# Altium schematic symbol library jlcpcb_2025_04_inductors_extended_1812.schlib: 80 symbols (part 1 of 2)
Pins are listed as number, name and electrical type; pins without a type are passive.

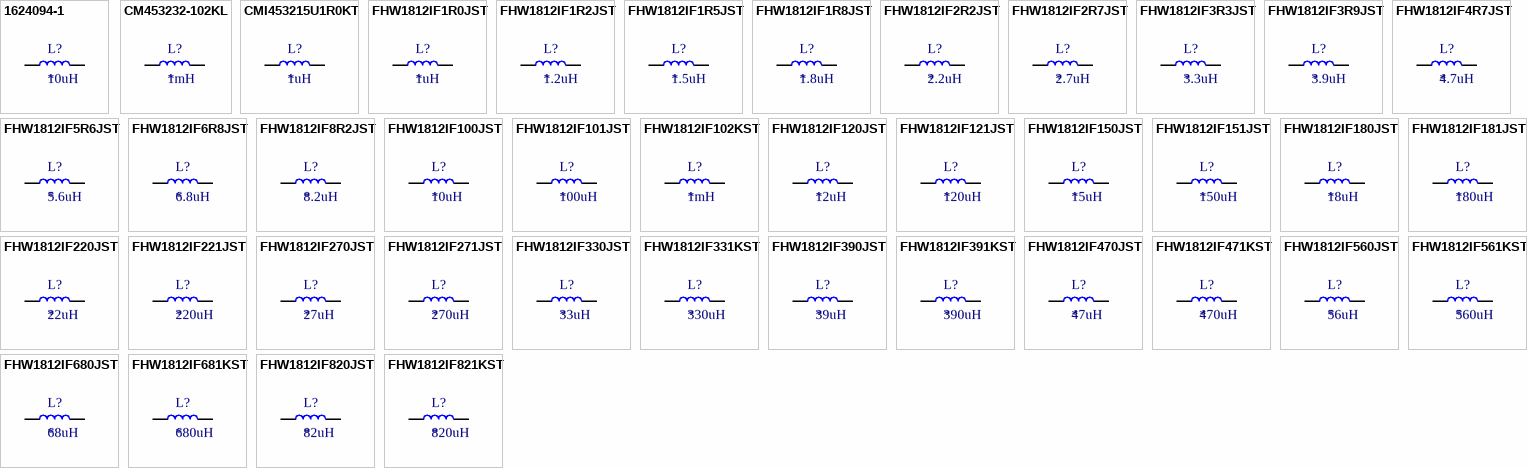
[diagram p0: symbols 1624094-1 to FHW1812IF821KST]

## 1624094-1
designator L?  Inductance: 10uH
Inductor, 10uH, ±10%, 1.6Ω, 250mA, SMD 1812; Manufacturer: TE Connectivity; Manufacturer Part Number: 1624094-1; Package Size: 1812; JLCPCB Basic Part: No; JLCPCB Part Number: C306170; Supplier 1: LCSC; Category: Inductors; Supplier Part Number 1: C306170; Tolerance: ±10%; Rated Current: 250mA; DC Resistance: 1.6Ω; RoHS: Yes; ComponentLink1Description: Datasheet; ComponentLink1URL: https://wmsc.lcsc.com/wmsc/upload/file/pdf/v2/lcsc/1811071522_TE-Connectivity-1624094-1_C306170.pdf; ComponentLink2Description: JLCPCB Part URL; ComponentLink2URL: https://jlcpcb.com/partdetail/C306170; ComponentLink3Description: LCSC Part URL; ComponentLink3URL: https://lcsc.com/product-detail/Inductors-SMD_TE-Connectivity-TE-Connectivity-1624094-1_C306170.html
footprint IND-1812 (1812 (4532M) Inductor)
pins: 1, 2

## CM453232-102KL
designator L?  Inductance: 1mH
Inductor, 1mH, ±10%, 40Ω, 30mA, SMD 1812; Manufacturer: BOURNS; Manufacturer Part Number: CM453232-102KL; Package Size: 1812; JLCPCB Basic Part: No; JLCPCB Part Number: C2042258; Supplier 1: LCSC; Category: Inductors; Supplier Part Number 1: C2042258; Tolerance: ±10%; Rated Current: 30mA; DC Resistance: 40Ω; RoHS: Yes; ComponentLink1Description: Datasheet; ComponentLink1URL: https://wmsc.lcsc.com/wmsc/upload/file/pdf/v2/lcsc/2304140030_BOURNS-CM453232-102KL_C2042258.pdf; ComponentLink2Description: JLCPCB Part URL; ComponentLink2URL: https://jlcpcb.com/partdetail/C2042258; ComponentLink3Description: LCSC Part URL; ComponentLink3URL: https://lcsc.com/product-detail/Power-Inductors_BOURNS-BOURNS-CM453232-102KL_C2042258.html
footprint IND-1812 (1812 (4532M) Inductor)
pins: 1, 2

## CMI453215U1R0KT
designator L?  Inductance: 1uH
Inductor, 1uH, ±10%, 550mΩ, 650mA, SMD 1812; Manufacturer: FH(Guangdong Fenghua Advanced Tech); Manufacturer Part Number: CMI453215U1R0KT; Self-Resonant Frequency: 50MHz; Q Factor: 35@10MHz; Package Size: 1812; JLCPCB Basic Part: No; JLCPCB Part Number: C75658; Supplier 1: LCSC; Category: Inductors; Supplier Part Number 1: C75658; Tolerance: ±10%; Rated Current: 650mA; DC Resistance: 550mΩ; RoHS: Yes; ComponentLink1Description: Datasheet; ComponentLink1URL: https://wmsc.lcsc.com/wmsc/upload/file/pdf/v2/lcsc/2302231101_FH--Guangdong-Fenghua-Advanced-Tech-CMI453215U1R0KT_C75658.pdf; ComponentLink2Description: JLCPCB Part URL; ComponentLink2URL: https://jlcpcb.com/partdetail/C75658; ComponentLink3Description: LCSC Part URL; ComponentLink3URL: https://lcsc.com/product-detail/Inductors-SMD_FH-Guangdong-Fenghua-Advanced-Tech-FH-Guangdong-Fenghua-Advanced-Tech-CMI453215U1R0KT_C75658.html
footprint IND-1812 (1812 (4532M) Inductor)
pins: 1, 2

## FHW1812IF1R0JST
designator L?  Inductance: 1uH
Inductor, 1uH, ±5%, 220mΩ, 1A, SMD 1812; Manufacturer: FH(Guangdong Fenghua Advanced Tech); Manufacturer Part Number: FHW1812IF1R0JST; Self-Resonant Frequency: 200MHz; Q Factor: 15@7.96MHz; Package Size: 1812; JLCPCB Basic Part: No; JLCPCB Part Number: C394110; Supplier 1: LCSC; Category: Inductors; Supplier Part Number 1: C394110; Tolerance: ±5%; Rated Current: 1A; DC Resistance: 220mΩ; RoHS: Yes; ComponentLink1Description: Datasheet; ComponentLink1URL: https://wmsc.lcsc.com/wmsc/upload/file/pdf/v2/lcsc/2303141830_FH--Guangdong-Fenghua-Advanced-Tech-FHW1812IF1R0JST_C394110.pdf; ComponentLink2Description: JLCPCB Part URL; ComponentLink2URL: https://jlcpcb.com/partdetail/C394110; ComponentLink3Description: LCSC Part URL; ComponentLink3URL: https://lcsc.com/product-detail/Inductors-SMD_FH-Guangdong-Fenghua-Advanced-Tech-FH-Guangdong-Fenghua-Advanced-Tech-FHW1812IF1R0JST_C394110.html
footprint IND-1812 (1812 (4532M) Inductor)
pins: 1, 2

## FHW1812IF1R2JST
designator L?  Inductance: 1.2uH
Inductor, 1.2uH, ±5%, 350mΩ, 1A, SMD 1812; Manufacturer: FH(Guangdong Fenghua Advanced Tech); Manufacturer Part Number: FHW1812IF1R2JST; Self-Resonant Frequency: 200MHz; Q Factor: 15@7.96MHz; Package Size: 1812; JLCPCB Basic Part: No; JLCPCB Part Number: C394111; Supplier 1: LCSC; Category: Inductors; Supplier Part Number 1: C394111; Tolerance: ±5%; Rated Current: 1A; DC Resistance: 350mΩ; RoHS: Yes; ComponentLink1Description: Datasheet; ComponentLink1URL: https://wmsc.lcsc.com/wmsc/upload/file/pdf/v2/lcsc/2303141830_FH--Guangdong-Fenghua-Advanced-Tech-FHW1812IF1R2JST_C394111.pdf; ComponentLink2Description: JLCPCB Part URL; ComponentLink2URL: https://jlcpcb.com/partdetail/C394111; ComponentLink3Description: LCSC Part URL; ComponentLink3URL: https://lcsc.com/product-detail/Inductors-SMD_FH-Guangdong-Fenghua-Advanced-Tech-FH-Guangdong-Fenghua-Advanced-Tech-FHW1812IF1R2JST_C394111.html
footprint IND-1812 (1812 (4532M) Inductor)
pins: 1, 2

## FHW1812IF1R5JST
designator L?  Inductance: 1.5uH
Inductor, 1.5uH, ±5%, 320mΩ, 1A, SMD 1812; Manufacturer: FH(Guangdong Fenghua Advanced Tech); Manufacturer Part Number: FHW1812IF1R5JST; Self-Resonant Frequency: 180MHz; Q Factor: 15@7.96MHz; Package Size: 1812; JLCPCB Basic Part: No; JLCPCB Part Number: C394112; Supplier 1: LCSC; Category: Inductors; Supplier Part Number 1: C394112; Tolerance: ±5%; Rated Current: 1A; DC Resistance: 320mΩ; RoHS: Yes; ComponentLink1Description: Datasheet; ComponentLink1URL: https://wmsc.lcsc.com/wmsc/upload/file/pdf/v2/lcsc/2303141830_FH--Guangdong-Fenghua-Advanced-Tech-FHW1812IF1R5JST_C394112.pdf; ComponentLink2Description: JLCPCB Part URL; ComponentLink2URL: https://jlcpcb.com/partdetail/C394112; ComponentLink3Description: LCSC Part URL; ComponentLink3URL: https://lcsc.com/product-detail/Inductors-SMD_FH-Guangdong-Fenghua-Advanced-Tech-FH-Guangdong-Fenghua-Advanced-Tech-FHW1812IF1R5JST_C394112.html
footprint IND-1812 (1812 (4532M) Inductor)
pins: 1, 2

## FHW1812IF1R8JST
designator L?  Inductance: 1.8uH
Inductor, 1.8uH, ±5%, 350mΩ, 950mA, SMD 1812; Manufacturer: FH(Guangdong Fenghua Advanced Tech); Manufacturer Part Number: FHW1812IF1R8JST; Self-Resonant Frequency: 160MHz; Q Factor: 15@7.96MHz; Package Size: 1812; JLCPCB Basic Part: No; JLCPCB Part Number: C394113; Supplier 1: LCSC; Category: Inductors; Supplier Part Number 1: C394113; Tolerance: ±5%; Rated Current: 950mA; DC Resistance: 350mΩ; RoHS: Yes; ComponentLink1Description: Datasheet; ComponentLink1URL: https://wmsc.lcsc.com/wmsc/upload/file/pdf/v2/lcsc/2303141830_FH--Guangdong-Fenghua-Advanced-Tech-FHW1812IF1R8JST_C394113.pdf; ComponentLink2Description: JLCPCB Part URL; ComponentLink2URL: https://jlcpcb.com/partdetail/C394113; ComponentLink3Description: LCSC Part URL; ComponentLink3URL: https://lcsc.com/product-detail/Inductors-SMD_FH-Guangdong-Fenghua-Advanced-Tech-FH-Guangdong-Fenghua-Advanced-Tech-FHW1812IF1R8JST_C394113.html
footprint IND-1812 (1812 (4532M) Inductor)
pins: 1, 2

## FHW1812IF2R2JST
designator L?  Inductance: 2.2uH
Inductor, 2.2uH, ±5%, 370mΩ, 900mA, SMD 1812; Manufacturer: FH(Guangdong Fenghua Advanced Tech); Manufacturer Part Number: FHW1812IF2R2JST; Self-Resonant Frequency: 150MHz; Q Factor: 15@7.96MHz; Package Size: 1812; JLCPCB Basic Part: No; JLCPCB Part Number: C394114; Supplier 1: LCSC; Category: Inductors; Supplier Part Number 1: C394114; Tolerance: ±5%; Rated Current: 900mA; DC Resistance: 370mΩ; RoHS: Yes; ComponentLink1Description: Datasheet; ComponentLink1URL: https://wmsc.lcsc.com/wmsc/upload/file/pdf/v2/lcsc/2303141830_FH--Guangdong-Fenghua-Advanced-Tech-FHW1812IF2R2JST_C394114.pdf; ComponentLink2Description: JLCPCB Part URL; ComponentLink2URL: https://jlcpcb.com/partdetail/C394114; ComponentLink3Description: LCSC Part URL; ComponentLink3URL: https://lcsc.com/product-detail/Inductors-SMD_FH-Guangdong-Fenghua-Advanced-Tech-FH-Guangdong-Fenghua-Advanced-Tech-FHW1812IF2R2JST_C394114.html
footprint IND-1812 (1812 (4532M) Inductor)
pins: 1, 2

## FHW1812IF2R7JST
designator L?  Inductance: 2.7uH
Inductor, 2.7uH, ±5%, 370mΩ, 850mA, SMD 1812; Manufacturer: FH(Guangdong Fenghua Advanced Tech); Manufacturer Part Number: FHW1812IF2R7JST; Self-Resonant Frequency: 145MHz; Q Factor: 15@7.96MHz; Package Size: 1812; JLCPCB Basic Part: No; JLCPCB Part Number: C394115; Supplier 1: LCSC; Category: Inductors; Supplier Part Number 1: C394115; Tolerance: ±5%; Rated Current: 850mA; DC Resistance: 370mΩ; RoHS: Yes; ComponentLink1Description: Datasheet; ComponentLink1URL: https://wmsc.lcsc.com/wmsc/upload/file/pdf/v2/lcsc/2303141830_FH--Guangdong-Fenghua-Advanced-Tech-FHW1812IF2R7JST_C394115.pdf; ComponentLink2Description: JLCPCB Part URL; ComponentLink2URL: https://jlcpcb.com/partdetail/C394115; ComponentLink3Description: LCSC Part URL; ComponentLink3URL: https://lcsc.com/product-detail/Inductors-SMD_FH-Guangdong-Fenghua-Advanced-Tech-FH-Guangdong-Fenghua-Advanced-Tech-FHW1812IF2R7JST_C394115.html
footprint IND-1812 (1812 (4532M) Inductor)
pins: 1, 2

## FHW1812IF3R3JST
designator L?  Inductance: 3.3uH
Inductor, 3.3uH, ±5%, 480mΩ, 800mA, SMD 1812; Manufacturer: FH(Guangdong Fenghua Advanced Tech); Manufacturer Part Number: FHW1812IF3R3JST; Self-Resonant Frequency: 140MHz; Q Factor: 15@7.96MHz; Package Size: 1812; JLCPCB Basic Part: No; JLCPCB Part Number: C394116; Supplier 1: LCSC; Category: Inductors; Supplier Part Number 1: C394116; Tolerance: ±5%; Rated Current: 800mA; DC Resistance: 480mΩ; RoHS: Yes; ComponentLink1Description: Datasheet; ComponentLink1URL: https://wmsc.lcsc.com/wmsc/upload/file/pdf/v2/lcsc/2303141830_FH--Guangdong-Fenghua-Advanced-Tech-FHW1812IF3R3JST_C394116.pdf; ComponentLink2Description: JLCPCB Part URL; ComponentLink2URL: https://jlcpcb.com/partdetail/C394116; ComponentLink3Description: LCSC Part URL; ComponentLink3URL: https://lcsc.com/product-detail/Inductors-SMD_FH-Guangdong-Fenghua-Advanced-Tech-FH-Guangdong-Fenghua-Advanced-Tech-FHW1812IF3R3JST_C394116.html
footprint IND-1812 (1812 (4532M) Inductor)
pins: 1, 2

## FHW1812IF3R9JST
designator L?  Inductance: 3.9uH
Inductor, 3.9uH, ±5%, 600mΩ, 750mA, SMD 1812; Manufacturer: FH(Guangdong Fenghua Advanced Tech); Manufacturer Part Number: FHW1812IF3R9JST; Self-Resonant Frequency: 135MHz; Q Factor: 15@7.96MHz; Package Size: 1812; JLCPCB Basic Part: No; JLCPCB Part Number: C394117; Supplier 1: LCSC; Category: Inductors; Supplier Part Number 1: C394117; Tolerance: ±5%; Rated Current: 750mA; DC Resistance: 600mΩ; RoHS: Yes; ComponentLink1Description: Datasheet; ComponentLink1URL: https://wmsc.lcsc.com/wmsc/upload/file/pdf/v2/lcsc/2303141830_FH--Guangdong-Fenghua-Advanced-Tech-FHW1812IF3R9JST_C394117.pdf; ComponentLink2Description: JLCPCB Part URL; ComponentLink2URL: https://jlcpcb.com/partdetail/C394117; ComponentLink3Description: LCSC Part URL; ComponentLink3URL: https://lcsc.com/product-detail/Inductors-SMD_FH-Guangdong-Fenghua-Advanced-Tech-FH-Guangdong-Fenghua-Advanced-Tech-FHW1812IF3R9JST_C394117.html
footprint IND-1812 (1812 (4532M) Inductor)
pins: 1, 2

## FHW1812IF4R7JST
designator L?  Inductance: 4.7uH
Inductor, 4.7uH, ±5%, 1Ω, 700mA, SMD 1812; Manufacturer: FH(Guangdong Fenghua Advanced Tech); Manufacturer Part Number: FHW1812IF4R7JST; Self-Resonant Frequency: 120MHz; Q Factor: 15@7.96MHz; Package Size: 1812; JLCPCB Basic Part: No; JLCPCB Part Number: C394118; Supplier 1: LCSC; Category: Inductors; Supplier Part Number 1: C394118; Tolerance: ±5%; Rated Current: 700mA; DC Resistance: 1Ω; RoHS: Yes; ComponentLink1Description: Datasheet; ComponentLink1URL: https://wmsc.lcsc.com/wmsc/upload/file/pdf/v2/lcsc/2303141830_FH--Guangdong-Fenghua-Advanced-Tech-FHW1812IF4R7JST_C394118.pdf; ComponentLink2Description: JLCPCB Part URL; ComponentLink2URL: https://jlcpcb.com/partdetail/C394118; ComponentLink3Description: LCSC Part URL; ComponentLink3URL: https://lcsc.com/product-detail/Inductors-SMD_FH-Guangdong-Fenghua-Advanced-Tech-FH-Guangdong-Fenghua-Advanced-Tech-FHW1812IF4R7JST_C394118.html
footprint IND-1812 (1812 (4532M) Inductor)
pins: 1, 2

## FHW1812IF5R6JST
designator L?  Inductance: 5.6uH
Inductor, 5.6uH, ±5%, 550mΩ, 650mA, SMD 1812; Manufacturer: FH(Guangdong Fenghua Advanced Tech); Manufacturer Part Number: FHW1812IF5R6JST; Self-Resonant Frequency: 110MHz; Q Factor: 15@7.96MHz; Package Size: 1812; JLCPCB Basic Part: No; JLCPCB Part Number: C394119; Supplier 1: LCSC; Category: Inductors; Supplier Part Number 1: C394119; Tolerance: ±5%; Rated Current: 650mA; DC Resistance: 550mΩ; RoHS: Yes; ComponentLink1Description: Datasheet; ComponentLink1URL: https://wmsc.lcsc.com/wmsc/upload/file/pdf/v2/lcsc/2303141830_FH--Guangdong-Fenghua-Advanced-Tech-FHW1812IF5R6JST_C394119.pdf; ComponentLink2Description: JLCPCB Part URL; ComponentLink2URL: https://jlcpcb.com/partdetail/C394119; ComponentLink3Description: LCSC Part URL; ComponentLink3URL: https://lcsc.com/product-detail/Inductors-SMD_FH-Guangdong-Fenghua-Advanced-Tech-FH-Guangdong-Fenghua-Advanced-Tech-FHW1812IF5R6JST_C394119.html
footprint IND-1812 (1812 (4532M) Inductor)
pins: 1, 2

## FHW1812IF6R8JST
designator L?  Inductance: 6.8uH
Inductor, 6.8uH, ±5%, 800mΩ, 600mA, SMD 1812; Manufacturer: FH(Guangdong Fenghua Advanced Tech); Manufacturer Part Number: FHW1812IF6R8JST; Self-Resonant Frequency: 80MHz; Q Factor: 15@7.96MHz; Package Size: 1812; JLCPCB Basic Part: No; JLCPCB Part Number: C394120; Supplier 1: LCSC; Category: Inductors; Supplier Part Number 1: C394120; Tolerance: ±5%; Rated Current: 600mA; DC Resistance: 800mΩ; RoHS: Yes; ComponentLink1Description: Datasheet; ComponentLink1URL: https://wmsc.lcsc.com/wmsc/upload/file/pdf/v2/lcsc/2303141830_FH--Guangdong-Fenghua-Advanced-Tech-FHW1812IF6R8JST_C394120.pdf; ComponentLink2Description: JLCPCB Part URL; ComponentLink2URL: https://jlcpcb.com/partdetail/C394120; ComponentLink3Description: LCSC Part URL; ComponentLink3URL: https://lcsc.com/product-detail/Inductors-SMD_FH-Guangdong-Fenghua-Advanced-Tech-FH-Guangdong-Fenghua-Advanced-Tech-FHW1812IF6R8JST_C394120.html
footprint IND-1812 (1812 (4532M) Inductor)
pins: 1, 2

## FHW1812IF8R2JST
designator L?  Inductance: 8.2uH
Inductor, 8.2uH, ±5%, 850mΩ, 600mA, SMD 1812; Manufacturer: FH(Guangdong Fenghua Advanced Tech); Manufacturer Part Number: FHW1812IF8R2JST; Self-Resonant Frequency: 70MHz; Q Factor: 10@7.96MHz; Package Size: 1812; JLCPCB Basic Part: No; JLCPCB Part Number: C394121; Supplier 1: LCSC; Category: Inductors; Supplier Part Number 1: C394121; Tolerance: ±5%; Rated Current: 600mA; DC Resistance: 850mΩ; RoHS: Yes; ComponentLink1Description: Datasheet; ComponentLink1URL: https://wmsc.lcsc.com/wmsc/upload/file/pdf/v2/lcsc/2303141830_FH--Guangdong-Fenghua-Advanced-Tech-FHW1812IF8R2JST_C394121.pdf; ComponentLink2Description: JLCPCB Part URL; ComponentLink2URL: https://jlcpcb.com/partdetail/C394121; ComponentLink3Description: LCSC Part URL; ComponentLink3URL: https://lcsc.com/product-detail/Inductors-SMD_FH-Guangdong-Fenghua-Advanced-Tech-FH-Guangdong-Fenghua-Advanced-Tech-FHW1812IF8R2JST_C394121.html
footprint IND-1812 (1812 (4532M) Inductor)
pins: 1, 2

## FHW1812IF100JST
designator L?  Inductance: 10uH
Inductor, 10uH, ±5%, 1Ω, 550mA, SMD 1812; Manufacturer: FH(Guangdong Fenghua Advanced Tech); Manufacturer Part Number: FHW1812IF100JST; Self-Resonant Frequency: 65MHz; Q Factor: 10@2.52MHz; Package Size: 1812; JLCPCB Basic Part: No; JLCPCB Part Number: C295709; Supplier 1: LCSC; Category: Inductors; Supplier Part Number 1: C295709; Tolerance: ±5%; Rated Current: 550mA; DC Resistance: 1Ω; RoHS: Yes; ComponentLink1Description: Datasheet; ComponentLink1URL: https://wmsc.lcsc.com/wmsc/upload/file/pdf/v2/lcsc/2303141830_FH--Guangdong-Fenghua-Advanced-Tech-FHW1812IF100JST_C295709.pdf; ComponentLink2Description: JLCPCB Part URL; ComponentLink2URL: https://jlcpcb.com/partdetail/C295709; ComponentLink3Description: LCSC Part URL; ComponentLink3URL: https://lcsc.com/product-detail/Inductors-SMD_FH-Guangdong-Fenghua-Advanced-Tech-FH-Guangdong-Fenghua-Advanced-Tech-FHW1812IF100JST_C295709.html
footprint IND-1812 (1812 (4532M) Inductor)
pins: 1, 2

## FHW1812IF101JST
designator L?  Inductance: 100uH
Inductor, 100uH, ±5%, 3Ω, 220mA, SMD 1812; Manufacturer: FH(Guangdong Fenghua Advanced Tech); Manufacturer Part Number: FHW1812IF101JST; Self-Resonant Frequency: 4MHz; Q Factor: 10@796kHz; Package Size: 1812; JLCPCB Basic Part: No; JLCPCB Part Number: C394133; Supplier 1: LCSC; Category: Inductors; Supplier Part Number 1: C394133; Tolerance: ±5%; Rated Current: 220mA; DC Resistance: 3Ω; RoHS: Yes; ComponentLink1Description: Datasheet; ComponentLink1URL: https://wmsc.lcsc.com/wmsc/upload/file/pdf/v2/lcsc/2303141830_FH--Guangdong-Fenghua-Advanced-Tech-FHW1812IF101JST_C394133.pdf; ComponentLink2Description: JLCPCB Part URL; ComponentLink2URL: https://jlcpcb.com/partdetail/C394133; ComponentLink3Description: LCSC Part URL; ComponentLink3URL: https://lcsc.com/product-detail/Inductors-SMD_FH-Guangdong-Fenghua-Advanced-Tech-FH-Guangdong-Fenghua-Advanced-Tech-FHW1812IF101JST_C394133.html
footprint IND-1812 (1812 (4532M) Inductor)
pins: 1, 2

## FHW1812IF102KST
designator L?  Inductance: 1mH
Inductor, 1mH, ±10%, 16.5Ω, 90mA, SMD 1812; Manufacturer: FH(Guangdong Fenghua Advanced Tech); Manufacturer Part Number: FHW1812IF102KST; Self-Resonant Frequency: 1.4MHz; Q Factor: 6@252kHz; Package Size: 1812; JLCPCB Basic Part: No; JLCPCB Part Number: C394145; Supplier 1: LCSC; Category: Inductors; Supplier Part Number 1: C394145; Tolerance: ±10%; Rated Current: 90mA; DC Resistance: 16.5Ω; RoHS: Yes; ComponentLink1Description: Datasheet; ComponentLink1URL: https://wmsc.lcsc.com/wmsc/upload/file/pdf/v2/lcsc/2303141830_FH--Guangdong-Fenghua-Advanced-Tech-FHW1812IF102KST_C394145.pdf; ComponentLink2Description: JLCPCB Part URL; ComponentLink2URL: https://jlcpcb.com/partdetail/C394145; ComponentLink3Description: LCSC Part URL; ComponentLink3URL: https://lcsc.com/product-detail/Inductors-SMD_FH-Guangdong-Fenghua-Advanced-Tech-FH-Guangdong-Fenghua-Advanced-Tech-FHW1812IF102KST_C394145.html
footprint IND-1812 (1812 (4532M) Inductor)
pins: 1, 2

## FHW1812IF120JST
designator L?  Inductance: 12uH
Inductor, 12uH, ±5%, 1.1Ω, 550mA, SMD 1812; Manufacturer: FH(Guangdong Fenghua Advanced Tech); Manufacturer Part Number: FHW1812IF120JST; Self-Resonant Frequency: 55MHz; Q Factor: 10@2.52MHz; Package Size: 1812; JLCPCB Basic Part: No; JLCPCB Part Number: C394122; Supplier 1: LCSC; Category: Inductors; Supplier Part Number 1: C394122; Tolerance: ±5%; Rated Current: 550mA; DC Resistance: 1.1Ω; RoHS: Yes; ComponentLink1Description: Datasheet; ComponentLink1URL: https://wmsc.lcsc.com/wmsc/upload/file/pdf/v2/lcsc/2303141830_FH--Guangdong-Fenghua-Advanced-Tech-FHW1812IF120JST_C394122.pdf; ComponentLink2Description: JLCPCB Part URL; ComponentLink2URL: https://jlcpcb.com/partdetail/C394122; ComponentLink3Description: LCSC Part URL; ComponentLink3URL: https://lcsc.com/product-detail/Inductors-SMD_FH-Guangdong-Fenghua-Advanced-Tech-FH-Guangdong-Fenghua-Advanced-Tech-FHW1812IF120JST_C394122.html
footprint IND-1812 (1812 (4532M) Inductor)
pins: 1, 2

## FHW1812IF121JST
designator L?  Inductance: 120uH
Inductor, 120uH, ±5%, 3.3Ω, 220mA, SMD 1812; Manufacturer: FH(Guangdong Fenghua Advanced Tech); Manufacturer Part Number: FHW1812IF121JST; Self-Resonant Frequency: 3.3MHz; Q Factor: 10@796kHz; Package Size: 1812; JLCPCB Basic Part: No; JLCPCB Part Number: C394134; Supplier 1: LCSC; Category: Inductors; Supplier Part Number 1: C394134; Tolerance: ±5%; Rated Current: 220mA; DC Resistance: 3.3Ω; RoHS: Yes; ComponentLink1Description: Datasheet; ComponentLink1URL: https://wmsc.lcsc.com/wmsc/upload/file/pdf/v2/lcsc/2303141830_FH--Guangdong-Fenghua-Advanced-Tech-FHW1812IF121JST_C394134.pdf; ComponentLink2Description: JLCPCB Part URL; ComponentLink2URL: https://jlcpcb.com/partdetail/C394134; ComponentLink3Description: LCSC Part URL; ComponentLink3URL: https://lcsc.com/product-detail/Inductors-SMD_FH-Guangdong-Fenghua-Advanced-Tech-FH-Guangdong-Fenghua-Advanced-Tech-FHW1812IF121JST_C394134.html
footprint IND-1812 (1812 (4532M) Inductor)
pins: 1, 2

## FHW1812IF150JST
designator L?  Inductance: 15uH
Inductor, 15uH, ±5%, 1.2Ω, 500mA, SMD 1812; Manufacturer: FH(Guangdong Fenghua Advanced Tech); Manufacturer Part Number: FHW1812IF150JST; Self-Resonant Frequency: 35MHz; Q Factor: 10@2.52MHz; Package Size: 1812; JLCPCB Basic Part: No; JLCPCB Part Number: C394123; Supplier 1: LCSC; Category: Inductors; Supplier Part Number 1: C394123; Tolerance: ±5%; Rated Current: 500mA; DC Resistance: 1.2Ω; RoHS: Yes; ComponentLink1Description: Datasheet; ComponentLink1URL: https://wmsc.lcsc.com/wmsc/upload/file/pdf/v2/lcsc/2303141830_FH--Guangdong-Fenghua-Advanced-Tech-FHW1812IF150JST_C394123.pdf; ComponentLink2Description: JLCPCB Part URL; ComponentLink2URL: https://jlcpcb.com/partdetail/C394123; ComponentLink3Description: LCSC Part URL; ComponentLink3URL: https://lcsc.com/product-detail/Inductors-SMD_FH-Guangdong-Fenghua-Advanced-Tech-FH-Guangdong-Fenghua-Advanced-Tech-FHW1812IF150JST_C394123.html
footprint IND-1812 (1812 (4532M) Inductor)
pins: 1, 2

## FHW1812IF151JST
designator L?  Inductance: 150uH
Inductor, 150uH, ±5%, 3.7Ω, 200mA, SMD 1812; Manufacturer: FH(Guangdong Fenghua Advanced Tech); Manufacturer Part Number: FHW1812IF151JST; Self-Resonant Frequency: 3MHz; Q Factor: 10@796kHz; Package Size: 1812; JLCPCB Basic Part: No; JLCPCB Part Number: C394135; Supplier 1: LCSC; Category: Inductors; Supplier Part Number 1: C394135; Tolerance: ±5%; Rated Current: 200mA; DC Resistance: 3.7Ω; RoHS: Yes; ComponentLink1Description: Datasheet; ComponentLink1URL: https://wmsc.lcsc.com/wmsc/upload/file/pdf/v2/lcsc/2303141830_FH--Guangdong-Fenghua-Advanced-Tech-FHW1812IF151JST_C394135.pdf; ComponentLink2Description: JLCPCB Part URL; ComponentLink2URL: https://jlcpcb.com/partdetail/C394135; ComponentLink3Description: LCSC Part URL; ComponentLink3URL: https://lcsc.com/product-detail/Inductors-SMD_FH-Guangdong-Fenghua-Advanced-Tech-FH-Guangdong-Fenghua-Advanced-Tech-FHW1812IF151JST_C394135.html
footprint IND-1812 (1812 (4532M) Inductor)
pins: 1, 2

## FHW1812IF180JST
designator L?  Inductance: 18uH
Inductor, 18uH, ±5%, 1.2Ω, 500mA, SMD 1812; Manufacturer: FH(Guangdong Fenghua Advanced Tech); Manufacturer Part Number: FHW1812IF180JST; Self-Resonant Frequency: 29MHz; Q Factor: 10@2.52MHz; Package Size: 1812; JLCPCB Basic Part: No; JLCPCB Part Number: C394124; Supplier 1: LCSC; Category: Inductors; Supplier Part Number 1: C394124; Tolerance: ±5%; Rated Current: 500mA; DC Resistance: 1.2Ω; RoHS: Yes; ComponentLink1Description: Datasheet; ComponentLink1URL: https://wmsc.lcsc.com/wmsc/upload/file/pdf/v2/lcsc/2303141830_FH--Guangdong-Fenghua-Advanced-Tech-FHW1812IF180JST_C394124.pdf; ComponentLink2Description: JLCPCB Part URL; ComponentLink2URL: https://jlcpcb.com/partdetail/C394124; ComponentLink3Description: LCSC Part URL; ComponentLink3URL: https://lcsc.com/product-detail/Inductors-SMD_FH-Guangdong-Fenghua-Advanced-Tech-FH-Guangdong-Fenghua-Advanced-Tech-FHW1812IF180JST_C394124.html
footprint IND-1812 (1812 (4532M) Inductor)
pins: 1, 2

## FHW1812IF181JST
designator L?  Inductance: 180uH
Inductor, 180uH, ±5%, 4.5Ω, 200mA, SMD 1812; Manufacturer: FH(Guangdong Fenghua Advanced Tech); Manufacturer Part Number: FHW1812IF181JST; Self-Resonant Frequency: 3MHz; Q Factor: 10@796kHz; Package Size: 1812; JLCPCB Basic Part: No; JLCPCB Part Number: C394136; Supplier 1: LCSC; Category: Inductors; Supplier Part Number 1: C394136; Tolerance: ±5%; Rated Current: 200mA; DC Resistance: 4.5Ω; RoHS: Yes; ComponentLink1Description: Datasheet; ComponentLink1URL: https://wmsc.lcsc.com/wmsc/upload/file/pdf/v2/lcsc/2303141830_FH--Guangdong-Fenghua-Advanced-Tech-FHW1812IF181JST_C394136.pdf; ComponentLink2Description: JLCPCB Part URL; ComponentLink2URL: https://jlcpcb.com/partdetail/C394136; ComponentLink3Description: LCSC Part URL; ComponentLink3URL: https://lcsc.com/product-detail/Inductors-SMD_FH-Guangdong-Fenghua-Advanced-Tech-FH-Guangdong-Fenghua-Advanced-Tech-FHW1812IF181JST_C394136.html
footprint IND-1812 (1812 (4532M) Inductor)
pins: 1, 2

## FHW1812IF220JST
designator L?  Inductance: 22uH
Inductor, 22uH, ±5%, 1.3Ω, 450mA, SMD 1812; Manufacturer: FH(Guangdong Fenghua Advanced Tech); Manufacturer Part Number: FHW1812IF220JST; Self-Resonant Frequency: 20MHz; Q Factor: 10@2.52MHz; Package Size: 1812; JLCPCB Basic Part: No; JLCPCB Part Number: C394125; Supplier 1: LCSC; Category: Inductors; Supplier Part Number 1: C394125; Tolerance: ±5%; Rated Current: 450mA; DC Resistance: 1.3Ω; RoHS: Yes; ComponentLink1Description: Datasheet; ComponentLink1URL: https://wmsc.lcsc.com/wmsc/upload/file/pdf/v2/lcsc/2303141830_FH--Guangdong-Fenghua-Advanced-Tech-FHW1812IF220JST_C394125.pdf; ComponentLink2Description: JLCPCB Part URL; ComponentLink2URL: https://jlcpcb.com/partdetail/C394125; ComponentLink3Description: LCSC Part URL; ComponentLink3URL: https://lcsc.com/product-detail/Inductors-SMD_FH-Guangdong-Fenghua-Advanced-Tech-FH-Guangdong-Fenghua-Advanced-Tech-FHW1812IF220JST_C394125.html
footprint IND-1812 (1812 (4532M) Inductor)
pins: 1, 2

## FHW1812IF221JST
designator L?  Inductance: 220uH
Inductor, 220uH, ±5%, 8Ω, 170mA, SMD 1812; Manufacturer: FH(Guangdong Fenghua Advanced Tech); Manufacturer Part Number: FHW1812IF221JST; Self-Resonant Frequency: 2.5MHz; Q Factor: 10@796kHz; Package Size: 1812; JLCPCB Basic Part: No; JLCPCB Part Number: C394137; Supplier 1: LCSC; Category: Inductors; Supplier Part Number 1: C394137; Tolerance: ±5%; Rated Current: 170mA; DC Resistance: 8Ω; RoHS: Yes; ComponentLink1Description: Datasheet; ComponentLink1URL: https://wmsc.lcsc.com/wmsc/upload/file/pdf/v2/lcsc/2303141830_FH--Guangdong-Fenghua-Advanced-Tech-FHW1812IF221JST_C394137.pdf; ComponentLink2Description: JLCPCB Part URL; ComponentLink2URL: https://jlcpcb.com/partdetail/C394137; ComponentLink3Description: LCSC Part URL; ComponentLink3URL: https://lcsc.com/product-detail/Inductors-SMD_FH-Guangdong-Fenghua-Advanced-Tech-FH-Guangdong-Fenghua-Advanced-Tech-FHW1812IF221JST_C394137.html
footprint IND-1812 (1812 (4532M) Inductor)
pins: 1, 2

## FHW1812IF270JST
designator L?  Inductance: 27uH
Inductor, 27uH, ±5%, 1.5Ω, 400mA, SMD 1812; Manufacturer: FH(Guangdong Fenghua Advanced Tech); Manufacturer Part Number: FHW1812IF270JST; Self-Resonant Frequency: 20MHz; Q Factor: 10@2.52MHz; Package Size: 1812; JLCPCB Basic Part: No; JLCPCB Part Number: C394126; Supplier 1: LCSC; Category: Inductors; Supplier Part Number 1: C394126; Tolerance: ±5%; Rated Current: 400mA; DC Resistance: 1.5Ω; RoHS: Yes; ComponentLink1Description: Datasheet; ComponentLink1URL: https://wmsc.lcsc.com/wmsc/upload/file/pdf/v2/lcsc/2303141830_FH--Guangdong-Fenghua-Advanced-Tech-FHW1812IF270JST_C394126.pdf; ComponentLink2Description: JLCPCB Part URL; ComponentLink2URL: https://jlcpcb.com/partdetail/C394126; ComponentLink3Description: LCSC Part URL; ComponentLink3URL: https://lcsc.com/product-detail/Inductors-SMD_FH-Guangdong-Fenghua-Advanced-Tech-FH-Guangdong-Fenghua-Advanced-Tech-FHW1812IF270JST_C394126.html
footprint IND-1812 (1812 (4532M) Inductor)
pins: 1, 2

## FHW1812IF271JST
designator L?  Inductance: 270uH
Inductor, 270uH, ±5%, 8.5Ω, 160mA, SMD 1812; Manufacturer: FH(Guangdong Fenghua Advanced Tech); Manufacturer Part Number: FHW1812IF271JST; Self-Resonant Frequency: 2.2MHz; Q Factor: 10@796kHz; Package Size: 1812; JLCPCB Basic Part: No; JLCPCB Part Number: C394138; Supplier 1: LCSC; Category: Inductors; Supplier Part Number 1: C394138; Tolerance: ±5%; Rated Current: 160mA; DC Resistance: 8.5Ω; RoHS: Yes; ComponentLink1Description: Datasheet; ComponentLink1URL: https://wmsc.lcsc.com/wmsc/upload/file/pdf/v2/lcsc/2303141830_FH--Guangdong-Fenghua-Advanced-Tech-FHW1812IF271JST_C394138.pdf; ComponentLink2Description: JLCPCB Part URL; ComponentLink2URL: https://jlcpcb.com/partdetail/C394138; ComponentLink3Description: LCSC Part URL; ComponentLink3URL: https://lcsc.com/product-detail/Inductors-SMD_FH-Guangdong-Fenghua-Advanced-Tech-FH-Guangdong-Fenghua-Advanced-Tech-FHW1812IF271JST_C394138.html
footprint IND-1812 (1812 (4532M) Inductor)
pins: 1, 2

## FHW1812IF330JST
designator L?  Inductance: 33uH
Inductor, 33uH, ±5%, 1.7Ω, 350mA, SMD 1812; Manufacturer: FH(Guangdong Fenghua Advanced Tech); Manufacturer Part Number: FHW1812IF330JST; Self-Resonant Frequency: 18MHz; Q Factor: 10@2.52MHz; Package Size: 1812; JLCPCB Basic Part: No; JLCPCB Part Number: C394127; Supplier 1: LCSC; Category: Inductors; Supplier Part Number 1: C394127; Tolerance: ±5%; Rated Current: 350mA; DC Resistance: 1.7Ω; RoHS: Yes; ComponentLink1Description: Datasheet; ComponentLink1URL: https://wmsc.lcsc.com/wmsc/upload/file/pdf/v2/lcsc/2303141830_FH--Guangdong-Fenghua-Advanced-Tech-FHW1812IF330JST_C394127.pdf; ComponentLink2Description: JLCPCB Part URL; ComponentLink2URL: https://jlcpcb.com/partdetail/C394127; ComponentLink3Description: LCSC Part URL; ComponentLink3URL: https://lcsc.com/product-detail/Inductors-SMD_FH-Guangdong-Fenghua-Advanced-Tech-FH-Guangdong-Fenghua-Advanced-Tech-FHW1812IF330JST_C394127.html
footprint IND-1812 (1812 (4532M) Inductor)
pins: 1, 2

## FHW1812IF331KST
designator L?  Inductance: 330uH
Inductor, 330uH, ±10%, 9Ω, 150mA, SMD 1812; Manufacturer: FH(Guangdong Fenghua Advanced Tech); Manufacturer Part Number: FHW1812IF331KST; Self-Resonant Frequency: 2MHz; Q Factor: 10@796kHz; Package Size: 1812; JLCPCB Basic Part: No; JLCPCB Part Number: C394139; Supplier 1: LCSC; Category: Inductors; Supplier Part Number 1: C394139; Tolerance: ±10%; Rated Current: 150mA; DC Resistance: 9Ω; RoHS: Yes; ComponentLink1Description: Datasheet; ComponentLink1URL: https://wmsc.lcsc.com/wmsc/upload/file/pdf/v2/lcsc/2303141830_FH--Guangdong-Fenghua-Advanced-Tech-FHW1812IF331KST_C394139.pdf; ComponentLink2Description: JLCPCB Part URL; ComponentLink2URL: https://jlcpcb.com/partdetail/C394139; ComponentLink3Description: LCSC Part URL; ComponentLink3URL: https://lcsc.com/product-detail/Inductors-SMD_FH-Guangdong-Fenghua-Advanced-Tech-FH-Guangdong-Fenghua-Advanced-Tech-FHW1812IF331KST_C394139.html
footprint IND-1812 (1812 (4532M) Inductor)
pins: 1, 2

## FHW1812IF390JST
designator L?  Inductance: 39uH
Inductor, 39uH, ±5%, 1.8Ω, 350mA, SMD 1812; Manufacturer: FH(Guangdong Fenghua Advanced Tech); Manufacturer Part Number: FHW1812IF390JST; Self-Resonant Frequency: 14MHz; Q Factor: 10@2.52MHz; Package Size: 1812; JLCPCB Basic Part: No; JLCPCB Part Number: C394128; Supplier 1: LCSC; Category: Inductors; Supplier Part Number 1: C394128; Tolerance: ±5%; Rated Current: 350mA; DC Resistance: 1.8Ω; RoHS: Yes; ComponentLink1Description: Datasheet; ComponentLink1URL: https://wmsc.lcsc.com/wmsc/upload/file/pdf/v2/lcsc/2303141830_FH--Guangdong-Fenghua-Advanced-Tech-FHW1812IF390JST_C394128.pdf; ComponentLink2Description: JLCPCB Part URL; ComponentLink2URL: https://jlcpcb.com/partdetail/C394128; ComponentLink3Description: LCSC Part URL; ComponentLink3URL: https://lcsc.com/product-detail/Inductors-SMD_FH-Guangdong-Fenghua-Advanced-Tech-FH-Guangdong-Fenghua-Advanced-Tech-FHW1812IF390JST_C394128.html
footprint IND-1812 (1812 (4532M) Inductor)
pins: 1, 2

## FHW1812IF391KST
designator L?  Inductance: 390uH
Inductor, 390uH, ±10%, 9.5Ω, 130mA, SMD 1812; Manufacturer: FH(Guangdong Fenghua Advanced Tech); Manufacturer Part Number: FHW1812IF391KST; Self-Resonant Frequency: 1.8MHz; Q Factor: 10@796kHz; Package Size: 1812; JLCPCB Basic Part: No; JLCPCB Part Number: C394140; Supplier 1: LCSC; Category: Inductors; Supplier Part Number 1: C394140; Tolerance: ±10%; Rated Current: 130mA; DC Resistance: 9.5Ω; RoHS: Yes; ComponentLink1Description: Datasheet; ComponentLink1URL: https://wmsc.lcsc.com/wmsc/upload/file/pdf/v2/lcsc/2303141830_FH--Guangdong-Fenghua-Advanced-Tech-FHW1812IF391KST_C394140.pdf; ComponentLink2Description: JLCPCB Part URL; ComponentLink2URL: https://jlcpcb.com/partdetail/C394140; ComponentLink3Description: LCSC Part URL; ComponentLink3URL: https://lcsc.com/product-detail/Inductors-SMD_FH-Guangdong-Fenghua-Advanced-Tech-FH-Guangdong-Fenghua-Advanced-Tech-FHW1812IF391KST_C394140.html
footprint IND-1812 (1812 (4532M) Inductor)
pins: 1, 2

## FHW1812IF470JST
designator L?  Inductance: 47uH
Inductor, 47uH, ±5%, 2Ω, 300mA, SMD 1812; Manufacturer: FH(Guangdong Fenghua Advanced Tech); Manufacturer Part Number: FHW1812IF470JST; Self-Resonant Frequency: 10MHz; Q Factor: 10@2.52MHz; Package Size: 1812; JLCPCB Basic Part: No; JLCPCB Part Number: C394129; Supplier 1: LCSC; Category: Inductors; Supplier Part Number 1: C394129; Tolerance: ±5%; Rated Current: 300mA; DC Resistance: 2Ω; RoHS: Yes; ComponentLink1Description: Datasheet; ComponentLink1URL: https://wmsc.lcsc.com/wmsc/upload/file/pdf/v2/lcsc/2303141830_FH--Guangdong-Fenghua-Advanced-Tech-FHW1812IF470JST_C394129.pdf; ComponentLink2Description: JLCPCB Part URL; ComponentLink2URL: https://jlcpcb.com/partdetail/C394129; ComponentLink3Description: LCSC Part URL; ComponentLink3URL: https://lcsc.com/product-detail/Inductors-SMD_FH-Guangdong-Fenghua-Advanced-Tech-FH-Guangdong-Fenghua-Advanced-Tech-FHW1812IF470JST_C394129.html
footprint IND-1812 (1812 (4532M) Inductor)
pins: 1, 2

## FHW1812IF471KST
designator L?  Inductance: 470uH
Inductor, 470uH, ±10%, 10.4Ω, 120mA, SMD 1812; Manufacturer: FH(Guangdong Fenghua Advanced Tech); Manufacturer Part Number: FHW1812IF471KST; Self-Resonant Frequency: 1.6MHz; Q Factor: 8@796kHz; Package Size: 1812; JLCPCB Basic Part: No; JLCPCB Part Number: C394141; Supplier 1: LCSC; Category: Inductors; Supplier Part Number 1: C394141; Tolerance: ±10%; Rated Current: 120mA; DC Resistance: 10.4Ω; RoHS: Yes; ComponentLink1Description: Datasheet; ComponentLink1URL: https://wmsc.lcsc.com/wmsc/upload/file/pdf/v2/lcsc/2303141830_FH--Guangdong-Fenghua-Advanced-Tech-FHW1812IF471KST_C394141.pdf; ComponentLink2Description: JLCPCB Part URL; ComponentLink2URL: https://jlcpcb.com/partdetail/C394141; ComponentLink3Description: LCSC Part URL; ComponentLink3URL: https://lcsc.com/product-detail/Inductors-SMD_FH-Guangdong-Fenghua-Advanced-Tech-FH-Guangdong-Fenghua-Advanced-Tech-FHW1812IF471KST_C394141.html
footprint IND-1812 (1812 (4532M) Inductor)
pins: 1, 2

## FHW1812IF560JST
designator L?  Inductance: 56uH
Inductor, 56uH, ±5%, 2.2Ω, 290mA, SMD 1812; Manufacturer: FH(Guangdong Fenghua Advanced Tech); Manufacturer Part Number: FHW1812IF560JST; Self-Resonant Frequency: 10MHz; Q Factor: 10@2.52MHz; Package Size: 1812; JLCPCB Basic Part: No; JLCPCB Part Number: C394130; Supplier 1: LCSC; Category: Inductors; Supplier Part Number 1: C394130; Tolerance: ±5%; Rated Current: 290mA; DC Resistance: 2.2Ω; RoHS: Yes; ComponentLink1Description: Datasheet; ComponentLink1URL: https://wmsc.lcsc.com/wmsc/upload/file/pdf/v2/lcsc/2303141830_FH--Guangdong-Fenghua-Advanced-Tech-FHW1812IF560JST_C394130.pdf; ComponentLink2Description: JLCPCB Part URL; ComponentLink2URL: https://jlcpcb.com/partdetail/C394130; ComponentLink3Description: LCSC Part URL; ComponentLink3URL: https://lcsc.com/product-detail/Inductors-SMD_FH-Guangdong-Fenghua-Advanced-Tech-FH-Guangdong-Fenghua-Advanced-Tech-FHW1812IF560JST_C394130.html
footprint IND-1812 (1812 (4532M) Inductor)
pins: 1, 2

## FHW1812IF561KST
designator L?  Inductance: 560uH
Inductor, 560uH, ±10%, 12.5Ω, 110mA, SMD 1812; Manufacturer: FH(Guangdong Fenghua Advanced Tech); Manufacturer Part Number: FHW1812IF561KST; Self-Resonant Frequency: 1.5MHz; Q Factor: 8@796kHz; Package Size: 1812; JLCPCB Basic Part: No; JLCPCB Part Number: C394142; Supplier 1: LCSC; Category: Inductors; Supplier Part Number 1: C394142; Tolerance: ±10%; Rated Current: 110mA; DC Resistance: 12.5Ω; RoHS: Yes; ComponentLink1Description: Datasheet; ComponentLink1URL: https://wmsc.lcsc.com/wmsc/upload/file/pdf/v2/lcsc/2303141830_FH--Guangdong-Fenghua-Advanced-Tech-FHW1812IF561KST_C394142.pdf; ComponentLink2Description: JLCPCB Part URL; ComponentLink2URL: https://jlcpcb.com/partdetail/C394142; ComponentLink3Description: LCSC Part URL; ComponentLink3URL: https://lcsc.com/product-detail/Inductors-SMD_FH-Guangdong-Fenghua-Advanced-Tech-FH-Guangdong-Fenghua-Advanced-Tech-FHW1812IF561KST_C394142.html
footprint IND-1812 (1812 (4532M) Inductor)
pins: 1, 2

## FHW1812IF680JST
designator L?  Inductance: 68uH
Inductor, 68uH, ±5%, 2.4Ω, 260mA, SMD 1812; Manufacturer: FH(Guangdong Fenghua Advanced Tech); Manufacturer Part Number: FHW1812IF680JST; Self-Resonant Frequency: 5.4MHz; Q Factor: 10@2.52MHz; Package Size: 1812; JLCPCB Basic Part: No; JLCPCB Part Number: C394131; Supplier 1: LCSC; Category: Inductors; Supplier Part Number 1: C394131; Tolerance: ±5%; Rated Current: 260mA; DC Resistance: 2.4Ω; RoHS: Yes; ComponentLink1Description: Datasheet; ComponentLink1URL: https://wmsc.lcsc.com/wmsc/upload/file/pdf/v2/lcsc/2303141830_FH--Guangdong-Fenghua-Advanced-Tech-FHW1812IF680JST_C394131.pdf; ComponentLink2Description: JLCPCB Part URL; ComponentLink2URL: https://jlcpcb.com/partdetail/C394131; ComponentLink3Description: LCSC Part URL; ComponentLink3URL: https://lcsc.com/product-detail/Inductors-SMD_FH-Guangdong-Fenghua-Advanced-Tech-FH-Guangdong-Fenghua-Advanced-Tech-FHW1812IF680JST_C394131.html
footprint IND-1812 (1812 (4532M) Inductor)
pins: 1, 2

## FHW1812IF681KST
designator L?  Inductance: 680uH
Inductor, 680uH, ±10%, 14Ω, 100mA, SMD 1812; Manufacturer: FH(Guangdong Fenghua Advanced Tech); Manufacturer Part Number: FHW1812IF681KST; Self-Resonant Frequency: 1.5MHz; Q Factor: 8@796kHz; Package Size: 1812; JLCPCB Basic Part: No; JLCPCB Part Number: C394143; Supplier 1: LCSC; Category: Inductors; Supplier Part Number 1: C394143; Tolerance: ±10%; Rated Current: 100mA; DC Resistance: 14Ω; RoHS: Yes; ComponentLink1Description: Datasheet; ComponentLink1URL: https://wmsc.lcsc.com/wmsc/upload/file/pdf/v2/lcsc/2303141830_FH--Guangdong-Fenghua-Advanced-Tech-FHW1812IF681KST_C394143.pdf; ComponentLink2Description: JLCPCB Part URL; ComponentLink2URL: https://jlcpcb.com/partdetail/C394143; ComponentLink3Description: LCSC Part URL; ComponentLink3URL: https://lcsc.com/product-detail/Inductors-SMD_FH-Guangdong-Fenghua-Advanced-Tech-FH-Guangdong-Fenghua-Advanced-Tech-FHW1812IF681KST_C394143.html
footprint IND-1812 (1812 (4532M) Inductor)
pins: 1, 2

## FHW1812IF820JST
designator L?  Inductance: 82uH
Inductor, 82uH, ±5%, 2.8Ω, 240mA, SMD 1812; Manufacturer: FH(Guangdong Fenghua Advanced Tech); Manufacturer Part Number: FHW1812IF820JST; Self-Resonant Frequency: 5.2MHz; Q Factor: 10@2.52MHz; Package Size: 1812; JLCPCB Basic Part: No; JLCPCB Part Number: C394132; Supplier 1: LCSC; Category: Inductors; Supplier Part Number 1: C394132; Tolerance: ±5%; Rated Current: 240mA; DC Resistance: 2.8Ω; RoHS: Yes; ComponentLink1Description: Datasheet; ComponentLink1URL: https://wmsc.lcsc.com/wmsc/upload/file/pdf/v2/lcsc/2303141830_FH--Guangdong-Fenghua-Advanced-Tech-FHW1812IF820JST_C394132.pdf; ComponentLink2Description: JLCPCB Part URL; ComponentLink2URL: https://jlcpcb.com/partdetail/C394132; ComponentLink3Description: LCSC Part URL; ComponentLink3URL: https://lcsc.com/product-detail/Inductors-SMD_FH-Guangdong-Fenghua-Advanced-Tech-FH-Guangdong-Fenghua-Advanced-Tech-FHW1812IF820JST_C394132.html
footprint IND-1812 (1812 (4532M) Inductor)
pins: 1, 2

## FHW1812IF821KST
designator L?  Inductance: 820uH
Inductor, 820uH, ±10%, 15Ω, 95mA, SMD 1812; Manufacturer: FH(Guangdong Fenghua Advanced Tech); Manufacturer Part Number: FHW1812IF821KST; Self-Resonant Frequency: 1.5MHz; Q Factor: 8@796kHz; Package Size: 1812; JLCPCB Basic Part: No; JLCPCB Part Number: C394144; Supplier 1: LCSC; Category: Inductors; Supplier Part Number 1: C394144; Tolerance: ±10%; Rated Current: 95mA; DC Resistance: 15Ω; RoHS: Yes; ComponentLink1Description: Datasheet; ComponentLink1URL: https://wmsc.lcsc.com/wmsc/upload/file/pdf/v2/lcsc/2303141830_FH--Guangdong-Fenghua-Advanced-Tech-FHW1812IF821KST_C394144.pdf; ComponentLink2Description: JLCPCB Part URL; ComponentLink2URL: https://jlcpcb.com/partdetail/C394144; ComponentLink3Description: LCSC Part URL; ComponentLink3URL: https://lcsc.com/product-detail/Inductors-SMD_FH-Guangdong-Fenghua-Advanced-Tech-FH-Guangdong-Fenghua-Advanced-Tech-FHW1812IF821KST_C394144.html
footprint IND-1812 (1812 (4532M) Inductor)
pins: 1, 2

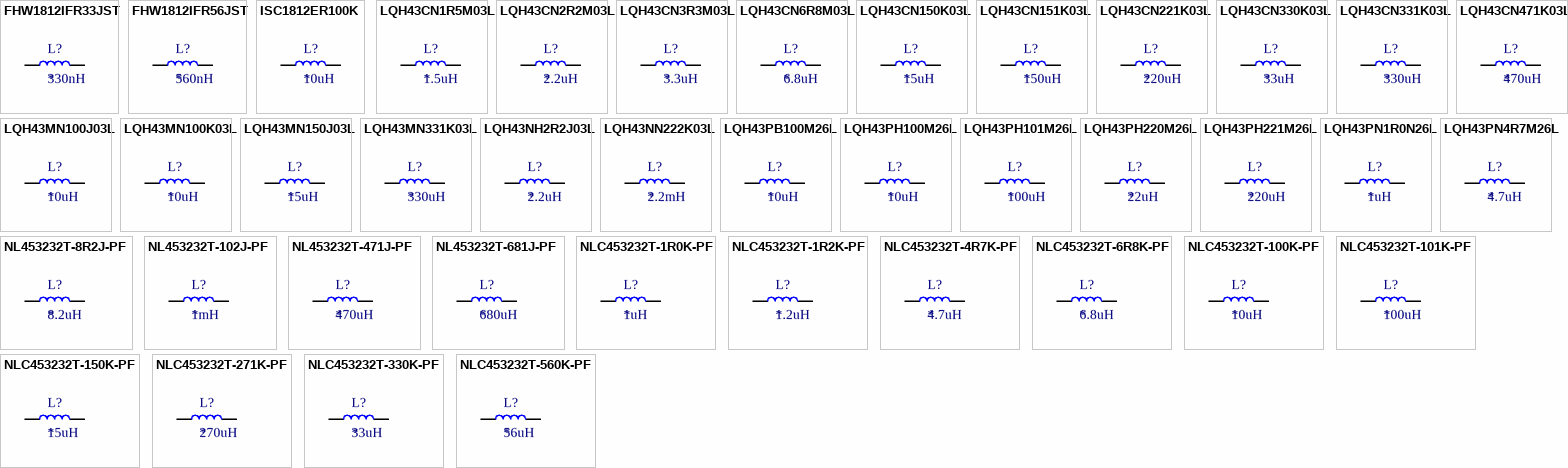
[diagram p1: symbols FHW1812IFR33JST to NLC453232T-560K-PF]

## FHW1812IFR33JST
designator L?  Inductance: 330nH
Inductor, 330nH, ±5%, 130mΩ, 1A, SMD 1812; Manufacturer: FH(Guangdong Fenghua Advanced Tech); Manufacturer Part Number: FHW1812IFR33JST; Self-Resonant Frequency: 380MHz; Q Factor: 10@25.2MHz; Package Size: 1812; JLCPCB Basic Part: No; JLCPCB Part Number: C394108; Supplier 1: LCSC; Category: Inductors; Supplier Part Number 1: C394108; Tolerance: ±5%; Rated Current: 1A; DC Resistance: 130mΩ; RoHS: Yes; ComponentLink1Description: Datasheet; ComponentLink1URL: https://wmsc.lcsc.com/wmsc/upload/file/pdf/v2/lcsc/2303141830_FH--Guangdong-Fenghua-Advanced-Tech-FHW1812IFR33JST_C394108.pdf; ComponentLink2Description: JLCPCB Part URL; ComponentLink2URL: https://jlcpcb.com/partdetail/C394108; ComponentLink3Description: LCSC Part URL; ComponentLink3URL: https://lcsc.com/product-detail/Inductors-SMD_FH-Guangdong-Fenghua-Advanced-Tech-FH-Guangdong-Fenghua-Advanced-Tech-FHW1812IFR33JST_C394108.html
footprint IND-1812 (1812 (4532M) Inductor)
pins: 1, 2

## FHW1812IFR56JST
designator L?  Inductance: 560nH
Inductor, 560nH, ±5%, 150mΩ, 1A, SMD 1812; Manufacturer: FH(Guangdong Fenghua Advanced Tech); Manufacturer Part Number: FHW1812IFR56JST; Self-Resonant Frequency: 300MHz; Q Factor: 10@25.2MHz; Package Size: 1812; JLCPCB Basic Part: No; JLCPCB Part Number: C394109; Supplier 1: LCSC; Category: Inductors; Supplier Part Number 1: C394109; Tolerance: ±5%; Rated Current: 1A; DC Resistance: 150mΩ; RoHS: Yes; ComponentLink1Description: Datasheet; ComponentLink1URL: https://wmsc.lcsc.com/wmsc/upload/file/pdf/v2/lcsc/2303141830_FH--Guangdong-Fenghua-Advanced-Tech-FHW1812IFR56JST_C394109.pdf; ComponentLink2Description: JLCPCB Part URL; ComponentLink2URL: https://jlcpcb.com/partdetail/C394109; ComponentLink3Description: LCSC Part URL; ComponentLink3URL: https://lcsc.com/product-detail/Inductors-SMD_FH-Guangdong-Fenghua-Advanced-Tech-FH-Guangdong-Fenghua-Advanced-Tech-FHW1812IFR56JST_C394109.html
footprint IND-1812 (1812 (4532M) Inductor)
pins: 1, 2

## ISC1812ER100K
designator L?  Inductance: 10uH
Inductor, 10uH, ±10%, 900mΩ, 279mA, SMD 1812; Manufacturer: Vishay Intertech; Manufacturer Part Number: ISC1812ER100K; Package Size: 1812; JLCPCB Basic Part: No; JLCPCB Part Number: C2046737; Supplier 1: LCSC; Category: Inductors; Supplier Part Number 1: C2046737; Tolerance: ±10%; Rated Current: 279mA; DC Resistance: 900mΩ; RoHS: Yes; ComponentLink1Description: Datasheet; ComponentLink1URL: https://wmsc.lcsc.com/wmsc/upload/file/pdf/v2/lcsc/2304140030_Vishay-Intertech-ISC1812ER100K_C2046737.pdf; ComponentLink2Description: JLCPCB Part URL; ComponentLink2URL: https://jlcpcb.com/partdetail/C2046737; ComponentLink3Description: LCSC Part URL; ComponentLink3URL: https://lcsc.com/product-detail/Power-Inductors_Vishay-Intertech-Vishay-Intertech-ISC1812ER100K_C2046737.html
footprint IND-1812 (1812 (4532M) Inductor)
pins: 1, 2

## LQH43CN1R5M03L
designator L?  Inductance: 1.5uH
Inductor, 1.5uH, ±20%, 90mΩ, SMD 1812; Manufacturer: Murata Electronics; Manufacturer Part Number: LQH43CN1R5M03L; Self-Resonant Frequency: 85MHz; Package Size: 1812; JLCPCB Basic Part: No; JLCPCB Part Number: C162566; Supplier 1: LCSC; Category: Inductors; Supplier Part Number 1: C162566; Tolerance: ±20%; DC Resistance: 90mΩ; RoHS: Yes; ComponentLink1Description: Datasheet; ComponentLink1URL: https://wmsc.lcsc.com/wmsc/upload/file/pdf/v2/lcsc/1808140049_Murata-Electronics-LQH43CN1R5M03L_C162566.pdf; ComponentLink2Description: JLCPCB Part URL; ComponentLink2URL: https://jlcpcb.com/partdetail/C162566; ComponentLink3Description: LCSC Part URL; ComponentLink3URL: https://lcsc.com/product-detail/Inductors-SMD_Murata-Electronics-Murata-Electronics-LQH43CN1R5M03L_C162566.html
footprint IND-1812 (1812 (4532M) Inductor)
pins: 1, 2

## LQH43CN2R2M03L
designator L?  Inductance: 2.2uH
Inductor, 2.2uH, ±20%, 110mΩ, 900mA, SMD 1812; Manufacturer: Murata Electronics; Manufacturer Part Number: LQH43CN2R2M03L; Self-Resonant Frequency: 60MHz; Package Size: 1812; JLCPCB Basic Part: No; JLCPCB Part Number: C701273; Supplier 1: LCSC; Category: Inductors; Supplier Part Number 1: C701273; Tolerance: ±20%; Rated Current: 900mA; DC Resistance: 110mΩ; RoHS: Yes; ComponentLink1Description: Datasheet; ComponentLink1URL: https://wmsc.lcsc.com/wmsc/upload/file/pdf/v2/lcsc/2304140030_Murata-Electronics-LQH43CN2R2M03L_C701273.pdf; ComponentLink2Description: JLCPCB Part URL; ComponentLink2URL: https://jlcpcb.com/partdetail/C701273; ComponentLink3Description: LCSC Part URL; ComponentLink3URL: https://lcsc.com/product-detail/Inductors-SMD_Murata-Electronics-Murata-Electronics-LQH43CN2R2M03L_C701273.html
footprint IND-1812 (1812 (4532M) Inductor)
pins: 1, 2

## LQH43CN3R3M03L
designator L?  Inductance: 3.3uH
Inductor, 3.3uH, ±20%, 130mΩ, 800mA, SMD 1812; Manufacturer: Murata Electronics; Manufacturer Part Number: LQH43CN3R3M03L; Package Size: 1812; JLCPCB Basic Part: No; JLCPCB Part Number: C524634; Supplier 1: LCSC; Category: Inductors; Supplier Part Number 1: C524634; Tolerance: ±20%; Rated Current: 800mA; DC Resistance: 130mΩ; RoHS: Yes; ComponentLink1Description: Datasheet; ComponentLink1URL: https://wmsc.lcsc.com/wmsc/upload/file/pdf/v2/lcsc/2304140030_Murata-Electronics-LQH43CN3R3M03L_C524634.pdf; ComponentLink2Description: JLCPCB Part URL; ComponentLink2URL: https://jlcpcb.com/partdetail/C524634; ComponentLink3Description: LCSC Part URL; ComponentLink3URL: https://lcsc.com/product-detail/Power-Inductors_Murata-Electronics-Murata-Electronics-LQH43CN3R3M03L_C524634.html
footprint IND-1812 (1812 (4532M) Inductor)
pins: 1, 2

## LQH43CN6R8M03L
designator L?  Inductance: 6.8uH
Inductor, 6.8uH, ±20%, 200mΩ, 720mA, SMD 1812; Manufacturer: Murata Electronics; Manufacturer Part Number: LQH43CN6R8M03L; Package Size: 1812; JLCPCB Basic Part: No; JLCPCB Part Number: C703769; Supplier 1: LCSC; Category: Inductors; Supplier Part Number 1: C703769; Tolerance: ±20%; Rated Current: 720mA; DC Resistance: 200mΩ; RoHS: Yes; ComponentLink1Description: Datasheet; ComponentLink1URL: https://wmsc.lcsc.com/wmsc/upload/file/pdf/v2/lcsc/2304140030_Murata-Electronics-LQH43CN6R8M03L_C703769.pdf; ComponentLink2Description: JLCPCB Part URL; ComponentLink2URL: https://jlcpcb.com/partdetail/C703769; ComponentLink3Description: LCSC Part URL; ComponentLink3URL: https://lcsc.com/product-detail/Power-Inductors_Murata-Electronics-Murata-Electronics-LQH43CN6R8M03L_C703769.html
footprint IND-1812 (1812 (4532M) Inductor)
pins: 1, 2

## LQH43CN150K03L
designator L?  Inductance: 15uH
Inductor, 15uH, ±10%, 320mΩ, 570mA, SMD 1812; Manufacturer: Murata Electronics; Manufacturer Part Number: LQH43CN150K03L; Package Size: 1812; JLCPCB Basic Part: No; JLCPCB Part Number: C2046374; Supplier 1: LCSC; Category: Inductors; Supplier Part Number 1: C2046374; Tolerance: ±10%; Rated Current: 570mA; DC Resistance: 320mΩ; RoHS: Yes; ComponentLink1Description: Datasheet; ComponentLink1URL: https://wmsc.lcsc.com/wmsc/upload/file/pdf/v2/lcsc/2202010300_Murata-Electronics-LQH43CN150K03L_C2046374.pdf; ComponentLink2Description: JLCPCB Part URL; ComponentLink2URL: https://jlcpcb.com/partdetail/C2046374; ComponentLink3Description: LCSC Part URL; ComponentLink3URL: https://lcsc.com/product-detail/Power-Inductors_Murata-Electronics-Murata-Electronics-LQH43CN150K03L_C2046374.html
footprint IND-1812 (1812 (4532M) Inductor)
pins: 1, 2

## LQH43CN151K03L
designator L?  Inductance: 150uH
Inductor, 150uH, ±10%, 3.5Ω, 130mA, SMD 1812; Manufacturer: Murata Electronics; Manufacturer Part Number: LQH43CN151K03L; Package Size: 1812; JLCPCB Basic Part: No; JLCPCB Part Number: C703774; Supplier 1: LCSC; Category: Inductors; Supplier Part Number 1: C703774; Tolerance: ±10%; Rated Current: 130mA; DC Resistance: 3.5Ω; RoHS: Yes; ComponentLink1Description: Datasheet; ComponentLink1URL: https://wmsc.lcsc.com/wmsc/upload/file/pdf/v2/lcsc/2304140030_Murata-Electronics-LQH43CN151K03L_C703774.pdf; ComponentLink2Description: JLCPCB Part URL; ComponentLink2URL: https://jlcpcb.com/partdetail/C703774; ComponentLink3Description: LCSC Part URL; ComponentLink3URL: https://lcsc.com/product-detail/Power-Inductors_Murata-Electronics-Murata-Electronics-LQH43CN151K03L_C703774.html
footprint IND-1812 (1812 (4532M) Inductor)
pins: 1, 2

## LQH43CN221K03L
designator L?  Inductance: 220uH
Inductor, 220uH, ±10%, 4Ω, 110mA, SMD 1812; Manufacturer: Murata Electronics; Manufacturer Part Number: LQH43CN221K03L; Package Size: 1812; JLCPCB Basic Part: No; JLCPCB Part Number: C703773; Supplier 1: LCSC; Category: Inductors; Supplier Part Number 1: C703773; Tolerance: ±10%; Rated Current: 110mA; DC Resistance: 4Ω; RoHS: Yes; ComponentLink1Description: Datasheet; ComponentLink1URL: https://wmsc.lcsc.com/wmsc/upload/file/pdf/v2/lcsc/2304140030_Murata-Electronics-LQH43CN221K03L_C703773.pdf; ComponentLink2Description: JLCPCB Part URL; ComponentLink2URL: https://jlcpcb.com/partdetail/C703773; ComponentLink3Description: LCSC Part URL; ComponentLink3URL: https://lcsc.com/product-detail/Power-Inductors_Murata-Electronics-Murata-Electronics-LQH43CN221K03L_C703773.html
footprint IND-1812 (1812 (4532M) Inductor)
pins: 1, 2